# EAGLE library part AD8676 (library 0SBLib)
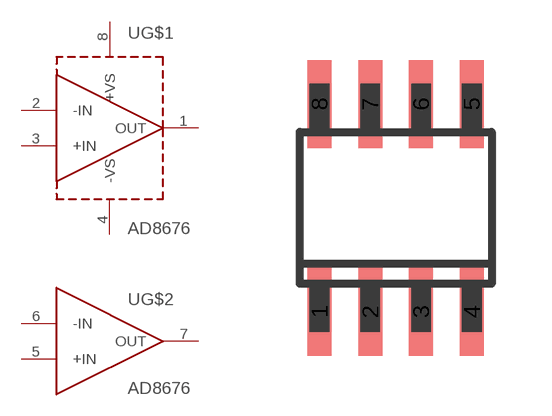
[diagram p18: symbol with the pads of SO-08; footprint SO-08]

Designator prefix U; gates G$1=AD8034 G$2=AOP

## AD8676  [SO-08]
1  G$1:OUT
2  G$1:-IN
3  G$1:+IN
4  G$1:-VS
5  G$2:+IN
6  G$2:-IN
7  G$2:OUT
8  G$1:+VS

## Footprint SO-08 (pad centres in mm)
Small Outline Narrow Plastic Gull Wing 150-mil body, package type SN
smd 0.6 x 2.2: 1 -1.905,-2.6; 2 -0.635,-2.6; 3 0.635,-2.6; 4 1.905,-2.6; 5 1.905,2.6; 6 0.635,2.6; 7 -0.635,2.6; 8 -1.905,2.6